# EAGLE library part NOKIA (library badge)
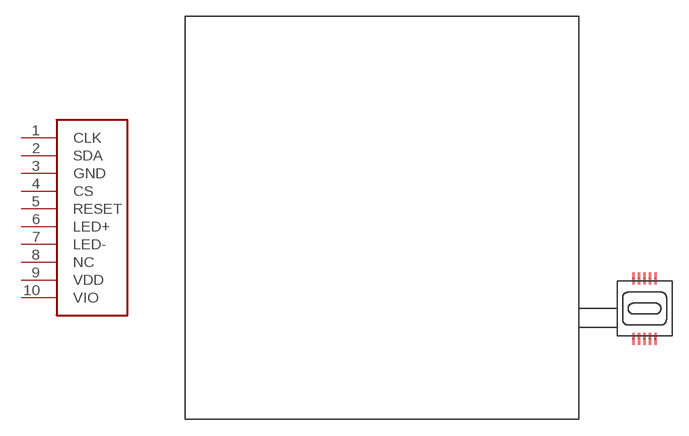
[diagram p1: symbol with the pads of DF23; footprint DF23]

Designator prefix -

## NOKIA  [DF23]
1  CLK
2  SDA
3  GND
4  CS
5  RESET
6  LED+
7  LED-
8  NC
9  VDD
10  VIO

## Footprint DF23 (pad centres in mm)
smd 0.25 x 1.1: 1 1,2.75; 2 0.5,2.75; 3 0,2.75; 4 -0.5,2.75; 5 -1,2.75; 6 -1,-2.75; 7 -0.5,-2.75; 8 0,-2.75; 9 0.5,-2.75; 10 1,-2.75